# Altium schematic symbol library ICs-Logic.SchLib: 11 symbols
Pins are listed as number, name and electrical type; pins without a type are passive.

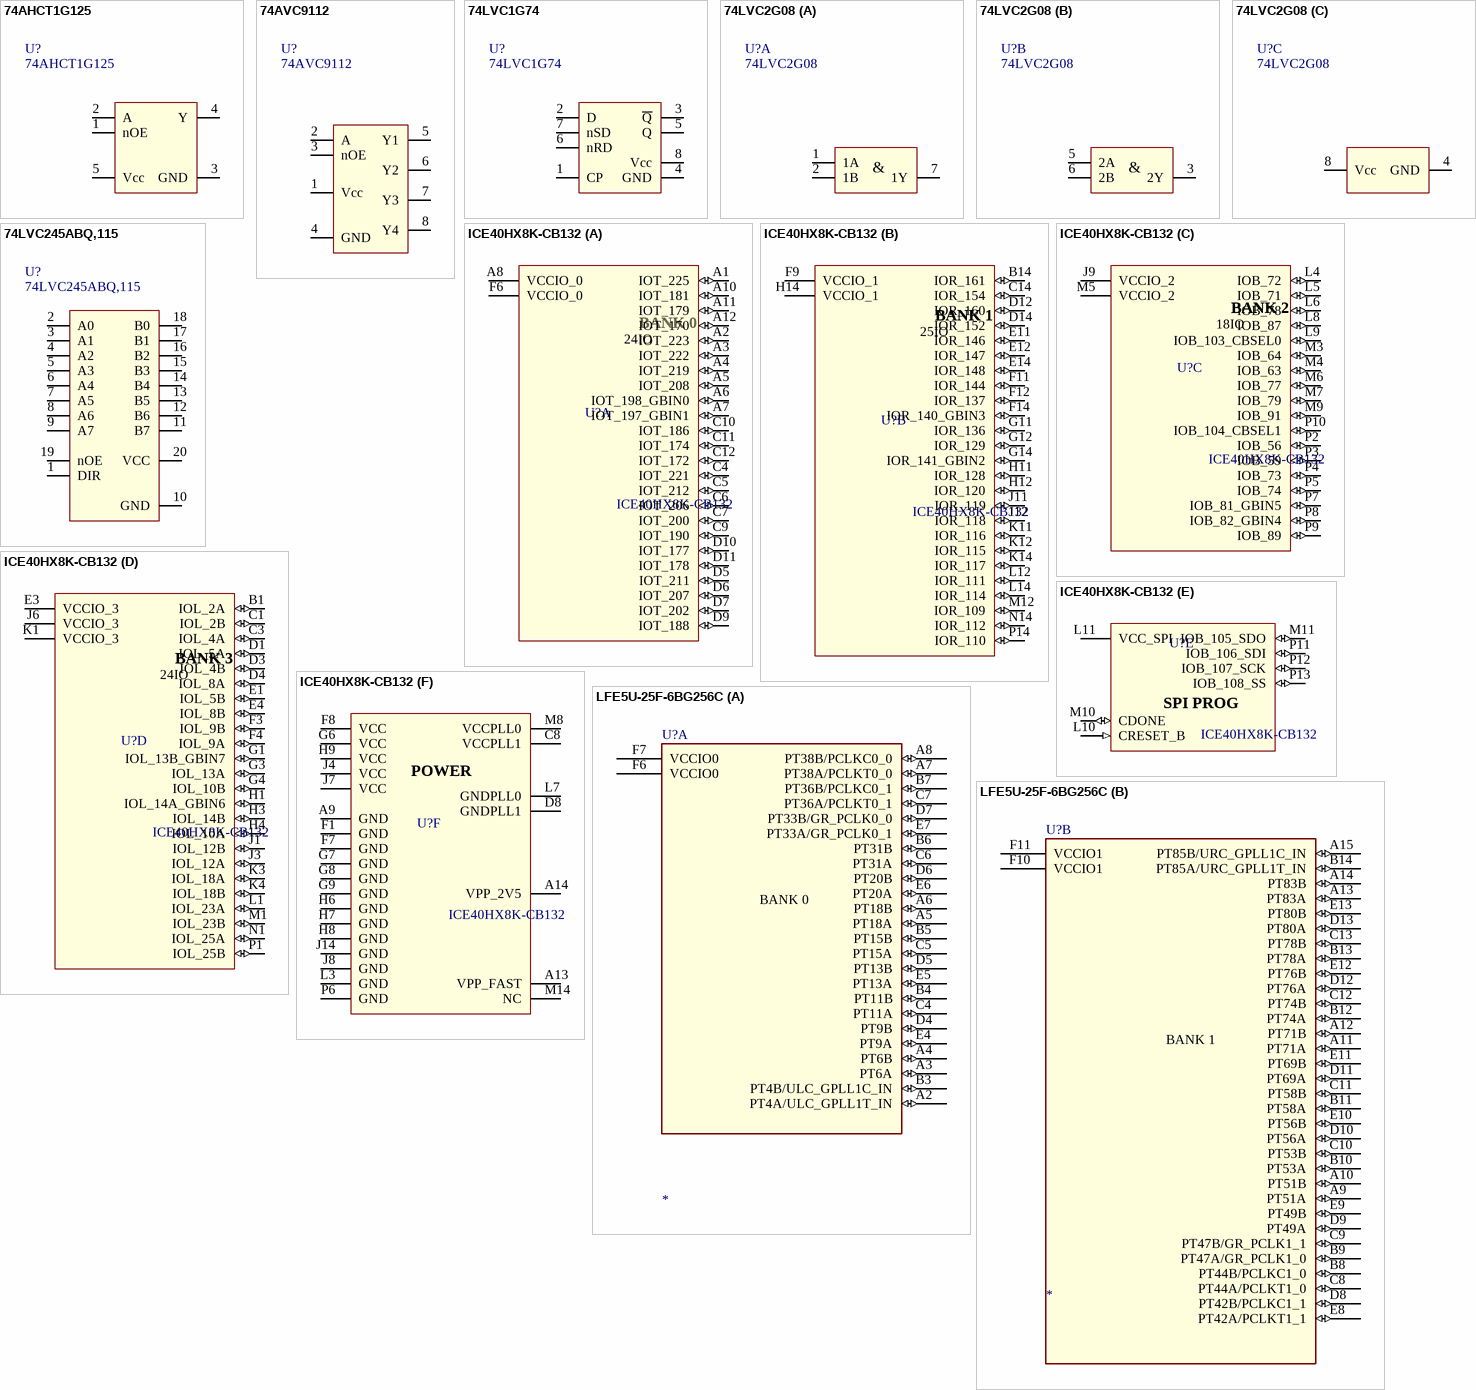
[diagram p0: symbols 74AHCT1G125 to LFE5U-25F-6BG256C]

## 74AHCT1G125
designator U?
IC BUS BUFF TRI-ST N-INV SOT23-5; MANUFACTURER #: SN74AHCT1G125DBVR; MANUFACTURER: TI; PART DESCRIPTION: Buffer, Non-Inverting 1 Element 1 Bit per Element Push-Pull Output SOT-23-5; TOLERANCE: -NA-; EE_SPEC: 4.5-5.5V; DISTRIBUTOR #: 296-4708-2-ND; DISTRIBUTOR: Digikey; PART: 74AHCT1G125; VALUE: 74AHCT1G125
footprint SOT23-5
pins: 1 nOE, 2 A, 3 GND, 4 Y, 5 Vcc, 23 NC hidden

## 74AVC9112
designator U?
Clock Fanout Buffer (Distribution) IC 1:4  8-XFDFN; MANUFACTURER #: 74AVC9112GTX; MANUFACTURER: Nexperia; TOLERANCE: -NA-; EE_SPEC: Clock Buffer 1:4 3.6V; DISTRIBUTOR #: 296-4708-2-ND; DISTRIBUTOR: Digikey; PART: 74AVC9112GTX; PART DESCRIPTION: Clock Fanout Buffer (Distribution) IC 1:4  8-XFDFN; VALUE: 74AVC9112
footprint XSON50P100X50-8L (SON, 8-Leads, Body 1.95x1.00mm, Pitch 0.50mm, IPC High Density)
pins: 1 Vcc, 2 A, 3 nOE, 4 GND, 5 Y1, 6 Y2 (power) "1", 7 Y3 (power) "1", 8 Y4 (power) "1", 23 NC hidden

## 74LVC1G74
designator U?
IC D-TYPE POS TRG SNGL 8TSSOP; MANUFACTURER #: 74LVC1G74DP,125; MANUFACTURER: Nexperia; TOLERANCE: -NA-; EE_SPEC: 1.65-5.5V 200MHz; VALUE: -NA-; DISTRIBUTOR #: 1727-5983-2-ND; DISTRIBUTOR: Digikey; PART: 74LVC1G74; PART DESCRIPTION: IC D-TYPE POS TRG SNGL 8TSSOP
footprint TSOP-8 (TSOP, 8-Leads, Body 3.00x3.00mm, Pitch 0.65mm, IPC High Density)
pins: 1 CP, 2 D, 3 ~{Q}, 4 GND, 5 Q, 6 nRD, 7 nSD, 8 Vcc, 23 NC hidden

## 74LVC2G08
designator U?
IC GATE AND 2CH 2-INP 8-VSSOP; MANUFACTURER #: 74LVC2G08DC,125; MANUFACTURER: Nexperia; PART DESCRIPTION: AND Gate IC 2 Channel 8-VSSOP, US8; TOLERANCE: -NA-; EE_SPEC: 1.65-5.5V, 32mA, LVTTL; VALUE: -NA-; DISTRIBUTOR #: 1727-3560-2-ND; DISTRIBUTOR: Digikey; PART: 74LVC2G08
footprint VSSOP8
part A pins: 1 1A, 2 1B, 7 1Y, 23 NC hidden
part B pins: 3 2Y, 5 2A, 6 2B
part C pins: 4 GND, 8 Vcc
part A text: &
part B text: &

## 74LVC245ABQ,115
designator U?
IC TXRX NON-INVERT 3.6V 20DHVQFN; MANUFACTURER: Nexperia; PART DESCRIPTION: Transceiver, Non-Inverting 1 Element 8 Bit per Element 3-State Output 20-DHVQFN-EP (2.5x4.5); TOLERANCE: -NA-; EE_SPEC: 1.65-3.6Vcc, 5V tolerant inputs; MANUFACTURER #: 74LVC245ABQ,115; PART: 74LVC245ABQ,115; VALUE: 74LVC245ABQ,115
footprint QFN20-DHVQFN20-QFN50P250X450X100_HS-21L (QFN, 20-Leads, Body 2.50x4.50mm, Pitch 0.50mm, Thermal Pad 1.00x3.00mm, IPC High Density)
pins: 1 DIR (power) "1", 2 A0 (power) "1", 3 A1 (power) "1", 4 A2 (power) "1", 5 A3 (power) "1", 6 A4 (power) "1", 7 A5 (power) "1", 8 A6 (power) "1", 9 A7 (power) "1", 10 GND (power) "1", 11 B7 (power) "1", 12 B6 (power) "1", 13 B5 (power) "1", 14 B4 (power) "1", 15 B3 (power) "1", 16 B2 (power) "1", 17 B1 (power) "1", 18 B0 (power) "1", 19 nOE (power) "1", 20 VCC (power) "1", 23 NC hidden

## ICE40HX8K-CB132
designator U?
IC FPGA 95 I/O 132CSBGA; MANUFACTURER: Lattice; TOLERANCE: -NA-; VALUE: 8K; MANUFACTURER #: ICE40HX8K-CB132; PART: ICE40HX8K-CB132; PART DESCRIPTION: IC FPGA 95 I/O 132CSBGA
footprint 132-csBGA-BGA100P9X9-81A (132 Ball 0.5mm BGA ICE40)
part A pins: A1 IOT_225 (io) "PIO", A2 IOT_223 (io) "PIO", A3 IOT_222 (io) "PIO", A4 IOT_219 (io) "PIO", A5 IOT_208 (io) "PIO", A6 IOT_198_GBIN0 (io) "GBIN", A7 IOT_197_GBIN1 (io) "GBIN", A8 VCCIO_0 (power) "VCCIO", A10 IOT_181 (io) "PIO", A11 IOT_179 (io) "PIO", A12 IOT_170 (io) "PIO", C4 IOT_221 (io) "PIO", C5 IOT_212 (io) "PIO", C6 IOT_206 (io) "PIO", C7 IOT_200 (io) "PIO", C9 IOT_190 (io) "PIO", C10 IOT_186 (io) "PIO", C11 IOT_174 (io) "PIO", C12 IOT_172 (io) "PIO", D5 IOT_211 (io) "PIO", D6 IOT_207 (io) "PIO", D7 IOT_202 (io) "PIO", D9 IOT_188 (io) "PIO", D10 IOT_177 (io) "PIO", D11 IOT_178 (io) "PIO", F6 VCCIO_0 (power) "VCCIO"
part B pins: B14 IOR_161 (io) "PIO", C14 IOR_154 (io) "PIO", D12 IOR_160 (io) "PIO", D14 IOR_152 (io) "PIO", E11 IOR_146 (io) "PIO", E12 IOR_147 (io) "PIO", E14 IOR_148 (io) "PIO", F9 VCCIO_1 (power) "VCCIO", F11 IOR_144 (io) "PIO", F12 IOR_137 (io) "PIO", F14 IOR_140_GBIN3 (io) "GBIN", G11 IOR_136 (io) "PIO", G12 IOR_129 (io) "PIO", G14 IOR_141_GBIN2 (io) "GBIN", H11 IOR_128 (io) "PIO", H12 IOR_120 (io) "PIO", H14 VCCIO_1 (power) "VCCIO", J11 IOR_119 (io) "PIO", J12 IOR_118 (io) "PIO", K11 IOR_116 (io) "PIO", K12 IOR_115 (io) "PIO", K14 IOR_117 (io) "PIO", L12 IOR_111 (io) "PIO", L14 IOR_114 (io) "PIO", M12 IOR_109 (io) "PIO", N14 IOR_112 (io) "PIO", P14 IOR_110 (io) "PIO"
part C pins: J9 VCCIO_2 (power) "VCCIO", L4 IOB_72 (io) "PIO", L5 IOB_71 (io) "PIO", L6 IOB_78 (io) "PIO", L8 IOB_87 (io) "PIO", L9 IOB_103_CBSEL0 (io) "PIO", M3 IOB_64 (io) "PIO", M4 IOB_63 (io) "PIO", M5 VCCIO_2 (power) "VCCIO", M6 IOB_77 (io) "PIO", M7 IOB_79 (io) "PIO", M9 IOB_91 (io) "PIO", P2 IOB_56 (io) "PIO", P3 IOB_59 (io) "PIO", P4 IOB_73 (io) "PIO", P5 IOB_74 (io) "PIO", P7 IOB_81_GBIN5 (io) "GBIN", P8 IOB_82_GBIN4 (io) "GBIN", P9 IOB_89 (io) "PIO", P10 IOB_104_CBSEL1 (io) "PIO"
part D pins: B1 IOL_2A (io) "DPIO", C1 IOL_2B (io) "DPIO", C3 IOL_4A (io) "DPIO", D1 IOL_5A (io) "DPIO", D3 IOL_4B (io) "DPIO", D4 IOL_8A (io) "DPIO", E1 IOL_5B (io) "DPIO", E3 VCCIO_3 (power) "VCCIO", E4 IOL_8B (io) "DPIO", F3 IOL_9B (io) "DPIO", F4 IOL_9A (io) "DPIO", G1 IOL_13B_GBIN7 (io) "GBIN", G3 IOL_13A (io) "DPIO", G4 IOL_10B (io) "DPIO", H1 IOL_14A_GBIN6 (io) "GBIN", H3 IOL_14B (io) "DPIO", H4 IOL_10A (io) "DPIO", J1 IOL_12B (io) "DPIO", J3 IOL_12A (io) "DPIO", J6 VCCIO_3 (power) "VCCIO", K1 VCCIO_3 (power) "VCCIO", K3 IOL_18A (io) "DPIO", K4 IOL_18B (io) "DPIO", L1 IOL_23A (io) "DPIO", M1 IOL_23B (io) "DPIO", N1 IOL_25A (io) "DPIO", P1 IOL_25B (io) "DPIO"
part E pins: L10 CRESET_B (in) "CONFIG", L11 VCC_SPI (power) "SPI", M10 CDONE (io) "CONFIG", M11 IOB_105_SDO (io) "SPI", P11 IOB_106_SDI (io) "SPI", P12 IOB_107_SCK (io) "SPI", P13 IOB_108_SS (io) "SPI"
part F pins: A9 GND (power), A13 VPP_FAST "VPP", A14 VPP_2V5 "VPP", C8 VCCPLL1 (power) "VCCPLL", D8 GNDPLL1 (power) "GNDPLL", F1 GND (power), F7 GND (power), F8 VCC (power), G6 VCC (power), G7 GND (power), G8 GND (power), G9 GND (power), H6 GND (power), H7 GND (power), H8 GND (power), H9 VCC (power), J4 VCC (power), J7 VCC (power), J8 GND (power), J14 GND (power), L3 GND (power), L7 GNDPLL0 (power) "GNDPLL", M8 VCCPLL0 (power) "VCCPLL", M14 NC, P6 GND (power)
part A text: BANK 0; 24IO
part B text: BANK 1; 25IO
part C text: BANK 2; 18IO
part D text: BANK 3; 24IO
part E text: SPI PROG
part F text: POWER

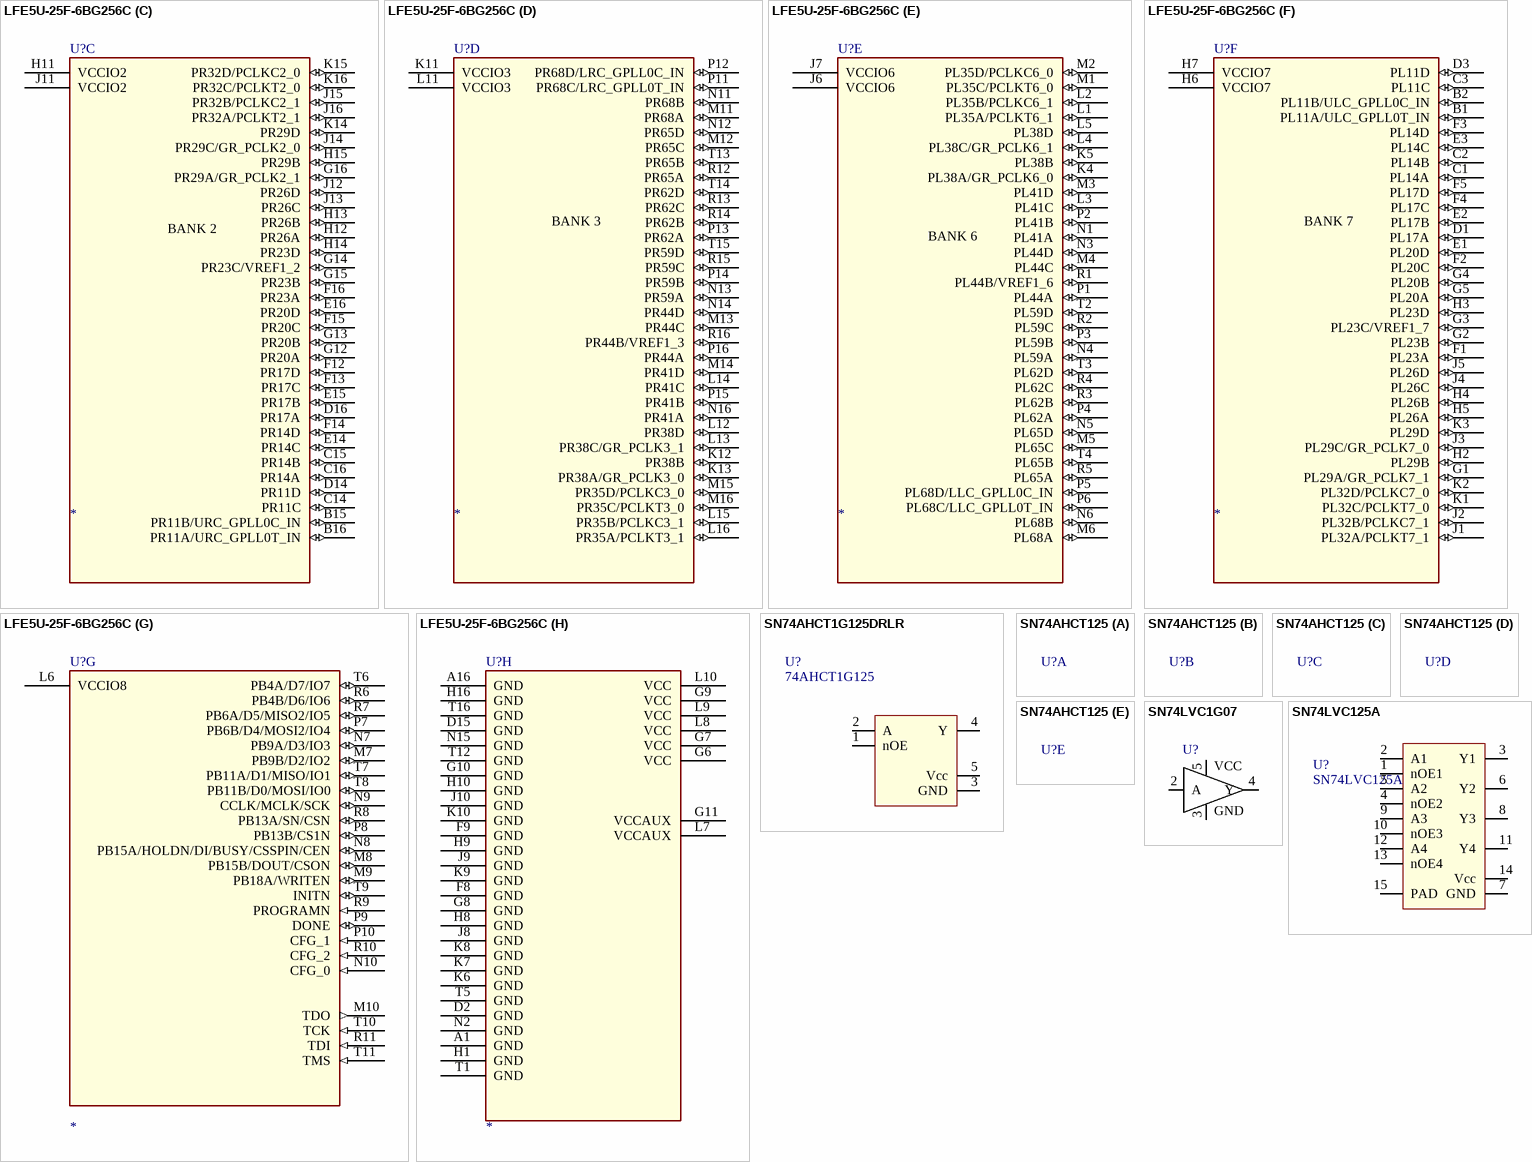
[diagram p1: symbols LFE5U-25F-6BG256C to SN74LVC125A]

## LFE5U-25F-6BG256C
designator U?
MANUFACTURER: Lattice; PART: LFE5U-25F-6BG256C
footprint 256caBGA-BGA100P9X9-81A
part A pins: A2 PT4A/ULC_GPLL1T_IN (io), A3 PT6A (io), A4 PT6B (io), A5 PT18A (io), A6 PT18B (io), A7 PT38A/PCLKT0_0 (io), A8 PT38B/PCLKC0_0 (io), B3 PT4B/ULC_GPLL1C_IN (io), B4 PT11B (io), B5 PT15B (io), B6 PT31B (io), B7 PT36B/PCLKC0_1 (io), C4 PT11A (io), C5 PT15A (io), C6 PT31A (io), C7 PT36A/PCLKT0_1 (io), D4 PT9B (io), D5 PT13B (io), D6 PT20B (io), D7 PT33B/GR_PCLK0_0 (io), E4 PT9A (io), E5 PT13A (io), E6 PT20A (io), E7 PT33A/GR_PCLK0_1 (io), F6 VCCIO0 (power), F7 VCCIO0 (power)
part B pins: A9 PT51A (io), A10 PT51B (io), A11 PT71A (io), A12 PT71B (io), A13 PT83A (io), A14 PT83B (io), A15 PT85B/URC_GPLL1C_IN (io), B8 PT44B/PCLKC1_0 (io), B9 PT47A/GR_PCLK1_0 (io), B10 PT53A (io), B11 PT58A (io), B12 PT74A (io), B13 PT78A (io), B14 PT85A/URC_GPLL1T_IN (io), C8 PT44A/PCLKT1_0 (io), C9 PT47B/GR_PCLK1_1 (io), C10 PT53B (io), C11 PT58B (io), C12 PT74B (io), C13 PT78B (io), D8 PT42B/PCLKC1_1 (io), D9 PT49A (io), D10 PT56A (io), D11 PT69A (io), D12 PT76A (io), D13 PT80A (io), E8 PT42A/PCLKT1_1 (io), E9 PT49B (io), E10 PT56B (io), E11 PT69B (io), E12 PT76B (io), E13 PT80B (io), F10 VCCIO1 (power), F11 VCCIO1 (power)
part C pins: B15 PR11B/URC_GPLL0C_IN (io), B16 PR11A/URC_GPLL0T_IN (io), C14 PR11C (io), C15 PR14B (io), C16 PR14A (io), D14 PR11D (io), D16 PR17A (io), E14 PR14C (io), E15 PR17B (io), E16 PR20D (io), F12 PR17D (io), F13 PR17C (io), F14 PR14D (io), F15 PR20C (io), F16 PR23A (io), G12 PR20A (io), G13 PR20B (io), G14 PR23C/VREF1_2 (io), G15 PR23B (io), G16 PR29A/GR_PCLK2_1 (io), H11 VCCIO2 (power), H12 PR26A (io), H13 PR26B (io), H14 PR23D (io), H15 PR29B (io), J11 VCCIO2 (power), J12 PR26D (io), J13 PR26C (io), J14 PR29C/GR_PCLK2_0 (io), J15 PR32B/PCLKC2_1 (io), J16 PR32A/PCLKT2_1 (io), K14 PR29D (io), K15 PR32D/PCLKC2_0 (io), K16 PR32C/PCLKT2_0 (io)
part D pins: K11 VCCIO3 (power), K12 PR38B (io), K13 PR38A/GR_PCLK3_0 (io), L11 VCCIO3 (power), L12 PR38D (io), L13 PR38C/GR_PCLK3_1 (io), L14 PR41C (io), L15 PR35B/PCLKC3_1 (io), L16 PR35A/PCLKT3_1 (io), M11 PR68A (io), M12 PR65C (io), M13 PR44C (io), M14 PR41D (io), M15 PR35D/PCLKC3_0 (io), M16 PR35C/PCLKT3_0 (io), N11 PR68B (io), N12 PR65D (io), N13 PR59A (io), N14 PR44D (io), N16 PR41A (io), P11 PR68C/LRC_GPLL0T_IN (io), P12 PR68D/LRC_GPLL0C_IN (io), P13 PR62A (io), P14 PR59B (io), P15 PR41B (io), P16 PR44A (io), R12 PR65A (io), R13 PR62C (io), R14 PR62B (io), R15 PR59C (io), R16 PR44B/VREF1_3 (io), T13 PR65B (io), T14 PR62D (io), T15 PR59D (io)
part E pins: J6 VCCIO6 (power), J7 VCCIO6 (power), K4 PL38A/GR_PCLK6_0 (io), K5 PL38B (io), L1 PL35A/PCLKT6_1 (io), L2 PL35B/PCLKC6_1 (io), L3 PL41C (io), L4 PL38C/GR_PCLK6_1 (io), L5 PL38D (io), M1 PL35C/PCLKT6_0 (io), M2 PL35D/PCLKC6_0 (io), M3 PL41D (io), M4 PL44C (io), M5 PL65C (io), M6 PL68A (io), N1 PL41A (io), N3 PL44D (io), N4 PL59A (io), N5 PL65D (io), N6 PL68B (io), P1 PL44A (io), P2 PL41B (io), P3 PL59B (io), P4 PL62A (io), P5 PL68D/LLC_GPLL0C_IN (io), P6 PL68C/LLC_GPLL0T_IN (io), R1 PL44B/VREF1_6 (io), R2 PL59C (io), R3 PL62B (io), R4 PL62C (io), R5 PL65A (io), T2 PL59D (io), T3 PL62D (io), T4 PL65B (io)
part F pins: B1 PL11A/ULC_GPLL0T_IN (io), B2 PL11B/ULC_GPLL0C_IN (io), C1 PL14A (io), C2 PL14B (io), C3 PL11C (io), D1 PL17A (io), D3 PL11D (io), E1 PL20D (io), E2 PL17B (io), E3 PL14C (io), F1 PL23A (io), F2 PL20C (io), F3 PL14D (io), F4 PL17C (io), F5 PL17D (io), G1 PL29A/GR_PCLK7_1 (io), G2 PL23B (io), G3 PL23C/VREF1_7 (io), G4 PL20B (io), G5 PL20A (io), H2 PL29B (io), H3 PL23D (io), H4 PL26B (io), H5 PL26A (io), H6 VCCIO7 (power), H7 VCCIO7 (power), J1 PL32A/PCLKT7_1 (io), J2 PL32B/PCLKC7_1 (io), J3 PL29C/GR_PCLK7_0 (io), J4 PL26C (io), J5 PL26D (io), K1 PL32C/PCLKT7_0 (io), K2 PL32D/PCLKC7_0 (io), K3 PL29D (io)
part G pins: L6 VCCIO8 (power), M7 PB9B/D2/IO2 (io), M8 PB15B/DOUT/CSON (io), M9 PB18A/WRITEN (io), M10 TDO (out), N7 PB9A/D3/IO3 (io), N8 PB15A/HOLDN/DI/BUSY/CSSPIN/CEN (io), N9 CCLK/MCLK/SCK (io), N10 CFG_0 (in), P7 PB6B/D4/MOSI2/IO4 (io), P8 PB13B/CS1N (io), P9 DONE (io), P10 CFG_1 (in), R6 PB4B/D6/IO6 (io), R7 PB6A/D5/MISO2/IO5 (io), R8 PB13A/SN/CSN (io), R9 PROGRAMN (in), R10 CFG_2 (in), R11 TDI (in), T6 PB4A/D7/IO7 (io), T7 PB11A/D1/MISO/IO1 (io), T8 PB11B/D0/MOSI/IO0 (io), T9 INITN (io), T10 TCK (in), T11 TMS (in)
part H pins: A1 GND (power), A16 GND (power), D2 GND (power), D15 GND (power), F8 GND (power), F9 GND (power), G6 VCC (power), G7 VCC (power), G8 GND (power), G9 VCC (power), G10 GND (power), G11 VCCAUX (power), H1 GND (power), H8 GND (power), H9 GND (power), H10 GND (power), H16 GND (power), J8 GND (power), J9 GND (power), J10 GND (power), K6 GND (power), K7 GND (power), K8 GND (power), K9 GND (power), K10 GND (power), L7 VCCAUX (power), L8 VCC (power), L9 VCC (power), L10 VCC (power), N2 GND (power), N15 GND (power), T1 GND (power), T5 GND (power), T12 GND (power), T16 GND (power)
part A text: BANK 0
part B text: BANK 1
part C text: BANK 2
part D text: BANK 3
part E text: BANK 6
part F text: BANK 7

## SN74AHCT1G125DRLR
designator U?, comment 74AHCT1G125
IC BUS BUFF TRI-ST N-INV  SOT-553; MANUFACTURER #: SN74AHCT1G125DRLR; MANUFACTURER: TI; PART DESCRIPTION: Buffer, Non-Inverting 1 Element 1 Bit per Element Push-Pull Output SOT-5; TOLERANCE: -NA-; EE_SPEC: 4.5-5.5V; DISTRIBUTOR #: 296-19379-2-ND; DISTRIBUTOR: Digikey; PART: SN74AHCT1G125DRLR; VALUE: 74AHCT1G125
footprint SOTFL50P160X60-5L (SOTFL, 5-Leads, Body 1.60x1.60mm, Pitch 0.50mm, IPC High Density)
pins: 1 nOE, 2 A, 3 GND, 4 Y, 5 Vcc, 23 NC hidden

## SN74AHCT125
designator U?, comment SN74AHCT125RGYR  (value not drawn)
Quadruple Bus Buffer Gates With 3-State Outputs 14-VQFN -40 to 125; MANUFACTURER: Texas Instruments; PART: IC BUS BUFFER TRI-ST QD 14VQFN; PART DESCRIPTION: Buffer, Non-Inverting 4 Element 1 Bit per Element Push-Pull Output 14-VQFN (3.5x3.5); TOLERANCE: -NA-; VALUE: Tri-State Buffer; EE_SPEC: 5V 8mA; MANUFACTURER #: SN74AHCT125RGYR; DISTRIBUTOR #: 296-13910-2-ND; DISTRIBUTOR: Digikey
footprint QFN50P350X350X100_RGY_S-PVQFN-N14 (QFN, 14-Leads, Body 3.50x3.50mm, Pitch 1.50mm/0.50mm, Thermal Pad 2.05x2.05mm, IPC High Density)

## SN74LVC1G07
designator U?  (value not drawn)
Buffer, Non-Inverting 1 Element 1 Bit per Element Open Drain Output SC-70-5; MANUFACTURER #: SN74LVC1G07DCKR; MANUFACTURER: Texas Instruments; TOLERANCE: -NA-; VALUE: IC BUF NON-INVERT 5.5V SC70-5; EE_SPEC: 5V 32mA; PART: Buffer, Non-Inverting 1 Element 1 Bit per Element Open Drain Output SC-70-5; PART DESCRIPTION: Buffer, Non-Inverting 1 Element 1 Bit per Element Open Drain Output SC-70-5
footprint DCK-SOP5-(R-PDSO-G5) (SOT23, 5-Leads, Body 2.00x2.10mm, Pitch 0.65mm, IPC High Density)
pins: 2 A, 3 GND, 4 Y, 5 VCC (power)

## SN74LVC125A
designator U?
IC BUS BUFF TRI-ST QD 14VQFN; MANUFACTURER #: SN74LVC125ARGYR; MANUFACTURER: TI; PART DESCRIPTION: Buffer, Non-Inverting 4 Element 1 Bit per Element Push-Pull Output 14-VQFN (3.5x3.5); TOLERANCE: -NA-; EE_SPEC: 1.65-3.6Vcc, 5V tolerant inputs; DISTRIBUTOR #: 296-13961-2-ND; DISTRIBUTOR: Digikey; PART: IC BUS BUFF TRI-ST QD 14VQFN; VALUE: SN74LVC125A
footprint PVQFN14_3.5X3.5 (QFN, 14-Leads, Body 3.50x3.50mm, Pitch 1.50mm/0.50mm, Thermal Pad 2.05x2.05mm, IPC High Density)
pins: 1 nOE1, 2 A1, 3 Y1, 4 nOE2, 5 A2, 6 Y2, 7 GND, 8 Y3, 9 A3, 10 nOE3, 11 Y4, 12 A4, 13 nOE4, 14 Vcc, 15 PAD, 23 NC hidden